# Altium footprint library Footprint_Gabriel.PcbLib: 5 footprints
Each footprint in its own frame and in the unit in brackets; x right, y up, seen from the top. Pads: shape width x height; smd on the part's side, far side on the other; paste and mask are expansions set on the pad; w line width, h text height; cw(c..) or ccw(c..) is an arc to the next point about the centre after c.
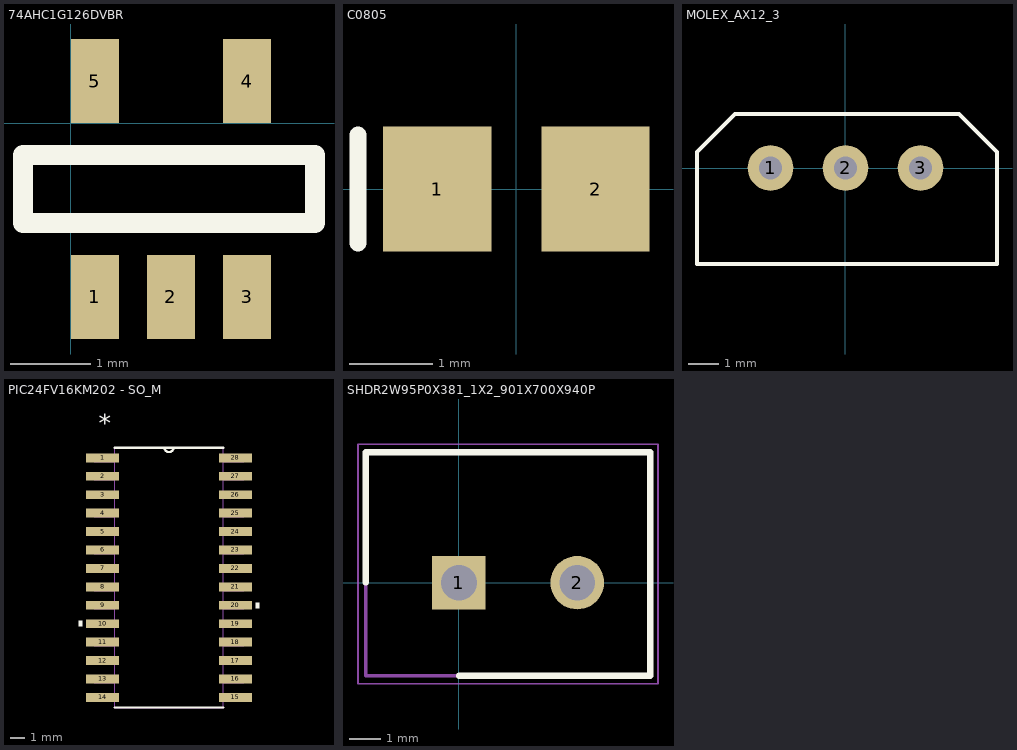
[diagram p0: the footprints below, top view; thin cyan lines are the x and y axes]

## 74AHC1G126DVBR [mm]
pads (5):
  rect 0.6x1.05 smd mask+0.07: 1(0.3,-2.175) 2(1.25,-2.175) 3(2.2,-2.175) 4(2.2,0.525) 5(0.3,0.525)
Top Overlay:
  lines w0.254: -0.6,-1.25 3.05,-1.25 3.05,-0.4 -0.6,-0.4 -0.6,-1.25

## C0805 [mm] "Chip Capacitor; Body 2.0 x 1.2 mm (LxW typ)"
height 1.1
pads (2):
  rect 1.3x1.5 smd: 1(-0.95,0) 2(0.95,0)
Top Overlay:
  lines w0.2: -1.9,-0.65 -1.9,0.65

## MOLEX_AX12_3 [mil]
pads (3):
  round 60 hole 30: 1(-98.43,0) 2(0,0) 3(98.43,0)
Top Overlay:
  lines w5: -194.88,-125.98 198.82,-125.98 198.82,20.87 148.82,70.87 -144.88,70.87 -194.88,20.87 -194.88,-125.98

## PIC24FV16KM202 - SO_M [mil]
pads (28):
  rect 90x24 smd: 1(-44157.46,-45037.06) 2(-44157.46,-45087.06) 3(-44157.46,-45137.06) 4(-44157.46,-45187.06) 5(-44157.46,-45237.06) 6(-44157.46,-45287.06) 7(-44157.46,-45337.06) 8(-44157.46,-45387.06) 9(-44157.46,-45437.06) 10(-44157.46,-45487.06) 11(-44157.46,-45537.06) 12(-44157.46,-45587.06) 13(-44157.46,-45637.06) 14(-44157.46,-45687.06) 15(-43797.46,-45687.06) 16(-43797.46,-45637.06) 17(-43797.46,-45587.06) 18(-43797.46,-45537.06) 19(-43797.46,-45487.06) 20(-43797.46,-45437.06) 21(-43797.46,-45387.06) 22(-43797.46,-45337.06) 23(-43797.46,-45287.06) 24(-43797.46,-45237.06) 25(-43797.46,-45187.06) 26(-43797.46,-45137.06) 27(-43797.46,-45087.06) 28(-43797.46,-45037.06)
Top Overlay:
  region: -44212.46,-45479.56 -44222.46,-45479.56 -44222.46,-45494.56 -44212.46,-45494.56
  region: -43742.46,-45429.56 -43732.46,-45429.56 -43732.46,-45444.56 -43742.46,-45444.56
  lines w6: -44124.96,-45714.56 -43829.96,-45714.56 ; -44124.96,-45009.56 -43829.96,-45009.56 ; -43989.46,-45009.56 ccw(c-43977.46,-45009.56) -43965.46,-45009.56
  text "*" at -44167.46,-44968.06 h50
Mechanical 1:
  lines w0: -43989.46,-45009.56 ccw(c-43977.46,-45009.56) -43965.46,-45009.56 ; -44180.46,-45697.06 -44180.46,-45677.06 -44124.96,-45677.06 -44124.96,-45697.06 -44180.46,-45697.06 ; -44180.46,-45647.06 -44180.46,-45627.06 -44124.96,-45627.06 -44124.96,-45647.06 -44180.46,-45647.06 ; -44180.46,-45597.06 -44180.46,-45577.06 -44124.96,-45577.06 -44124.96,-45597.06 -44180.46,-45597.06 ; -44180.46,-45547.06 -44180.46,-45527.06 -44124.96,-45527.06 -44124.96,-45547.06 -44180.46,-45547.06 ; -44180.46,-45497.06 -44180.46,-45477.06 -44124.96,-45477.06 -44124.96,-45497.06 -44180.46,-45497.06 ; -44180.46,-45447.06 -44180.46,-45427.06 -44124.96,-45427.06 -44124.96,-45447.06 -44180.46,-45447.06 ; -44180.46,-45397.06 -44180.46,-45377.06 -44124.96,-45377.06 -44124.96,-45397.06 -44180.46,-45397.06 ; -44180.46,-45347.06 -44180.46,-45327.06 -44124.96,-45327.06 -44124.96,-45347.06 -44180.46,-45347.06 ; -44180.46,-45297.06 -44180.46,-45277.06 -44124.96,-45277.06 -44124.96,-45297.06 -44180.46,-45297.06 ; -44180.46,-45247.06 -44180.46,-45227.06 -44124.96,-45227.06 -44124.96,-45247.06 -44180.46,-45247.06 ; -44180.46,-45197.06 -44180.46,-45177.06 -44124.96,-45177.06 -44124.96,-45197.06 -44180.46,-45197.06 ; -44180.46,-45147.06 -44180.46,-45127.06 -44124.96,-45127.06 -44124.96,-45147.06 -44180.46,-45147.06 ; -44180.46,-45097.06 -44180.46,-45077.06 -44124.96,-45077.06 -44124.96,-45097.06 -44180.46,-45097.06 ; -44180.46,-45047.06 -44180.46,-45027.06 -44124.96,-45027.06 -44124.96,-45047.06 -44180.46,-45047.06 ; -44124.96,-45714.56 -43829.96,-45714.56 -43829.96,-45009.56 -44124.96,-45009.56 -44124.96,-45714.56 ; -43829.96,-45697.06 -43829.96,-45677.06 -43774.46,-45677.06 -43774.46,-45697.06 -43829.96,-45697.06 ; -43829.96,-45647.06 -43829.96,-45627.06 -43774.46,-45627.06 -43774.46,-45647.06 -43829.96,-45647.06 ; -43829.96,-45597.06 -43829.96,-45577.06 -43774.46,-45577.06 -43774.46,-45597.06 -43829.96,-45597.06 ; -43829.96,-45547.06 -43829.96,-45527.06 -43774.46,-45527.06 -43774.46,-45547.06 -43829.96,-45547.06 ; -43829.96,-45497.06 -43829.96,-45477.06 -43774.46,-45477.06 -43774.46,-45497.06 -43829.96,-45497.06 ; -43829.96,-45447.06 -43829.96,-45427.06 -43774.46,-45427.06 -43774.46,-45447.06 -43829.96,-45447.06 ; -43829.96,-45397.06 -43829.96,-45377.06 -43774.46,-45377.06 -43774.46,-45397.06 -43829.96,-45397.06 ; -43829.96,-45347.06 -43829.96,-45327.06 -43774.46,-45327.06 -43774.46,-45347.06 -43829.96,-45347.06 ; -43829.96,-45297.06 -43829.96,-45277.06 -43774.46,-45277.06 -43774.46,-45297.06 -43829.96,-45297.06 ; -43829.96,-45247.06 -43829.96,-45227.06 -43774.46,-45227.06 -43774.46,-45247.06 -43829.96,-45247.06 ; -43829.96,-45197.06 -43829.96,-45177.06 -43774.46,-45177.06 -43774.46,-45197.06 -43829.96,-45197.06 ; -43829.96,-45147.06 -43829.96,-45127.06 -43774.46,-45127.06 -43774.46,-45147.06 -43829.96,-45147.06 ; -43829.96,-45097.06 -43829.96,-45077.06 -43774.46,-45077.06 -43774.46,-45097.06 -43829.96,-45097.06 ; -43829.96,-45047.06 -43829.96,-45027.06 -43774.46,-45027.06 -43774.46,-45047.06 -43829.96,-45047.06
  text "*" at -44167.46,-44968.06 h50

## SHDR2W95P0X381_1X2_901X700X940P [mm]
pads (2):
  rect 1.725x1.725 / inner round 1.725 / far side rect 1.725x1.725 hole 1.15: 1(0,0)
  round 1.725 hole 1.15: 2(3.81,0)
Top Overlay:
  lines w0.2: -3,0 -3,4.2 6.16,4.2 6.16,-3 0,-3
Mechanical 15:
  lines w0.1: -3,-3 -3,4.2 6.16,4.2 6.16,-3 -3,-3
Mechanical 20:
  lines w0.05: -3.25,-3.25 -3.25,4.45 6.41,4.45 6.41,-3.25 -3.25,-3.25